# Altium schematic symbol library kmilo17pet-NSC_MiscPower.SchLib: 1552 symbols (part 27 of 43)
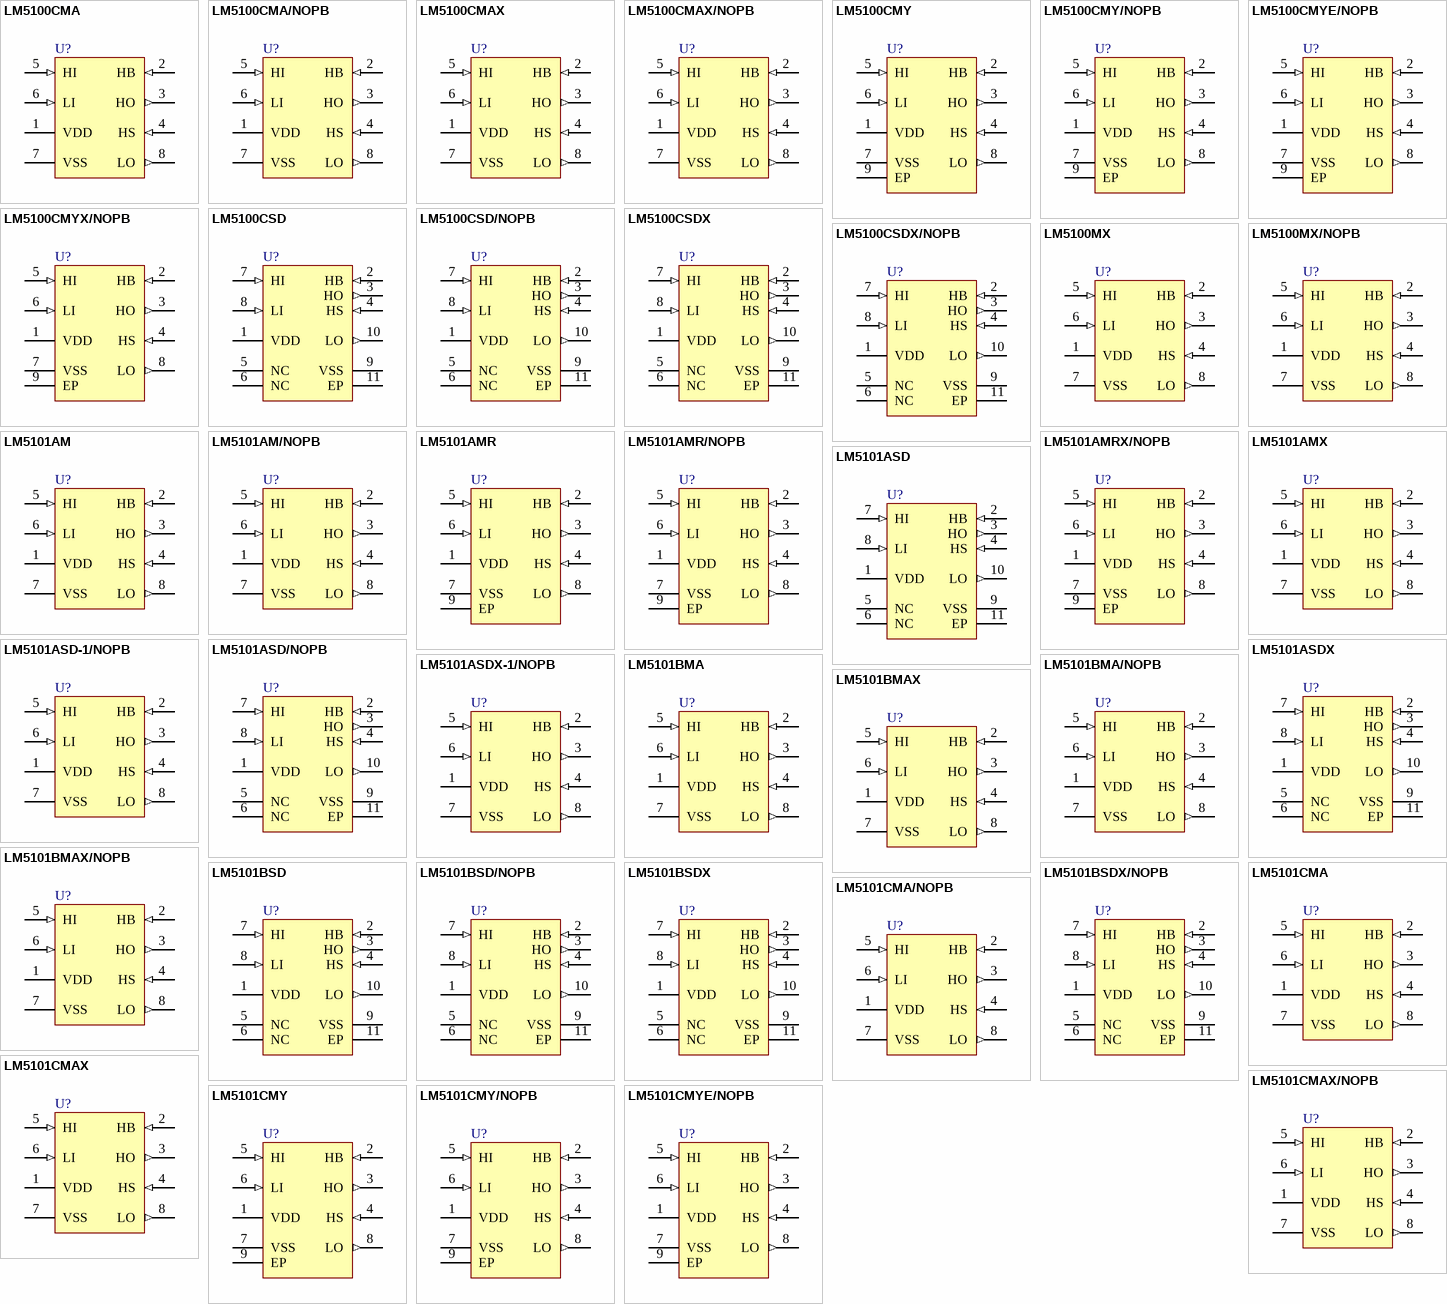
[diagram p83: symbols LM5100CMA to LM5101CMYE/NOPB]

## LM5101AMR
designator U?
3A High Voltage High-Side and Low-Side Gate Driver, 8-pin PSOP; PartNumber: LM5101AMR; Manufacturer: National Semiconductor; PackageTopMarking: NSXYTT*L5101*AMR; PowerWise: N; CompType: MiscPower; High-Reliability: Y; DatasheetVersion: Jun-2009; PackageVersion: revD, Dec-2007; PackageReference: MRA08A; PackageDescription: Molded, PSOP .193 x .154 x .058in, 8 Lead, .050in Pitch; RoHS: Y; PinCount: 8; Code_JEDEC: MS-012-AA; ComponentLink1Description: Manufacturer URL; ComponentLink1URL: http://www.national.com/; ComponentLink2Description: LM5101A Datasheet; ComponentLink2URL: http://www.national.com/ds/LM/LM5100A.pdf; ComponentLink3Description: LM5101A Web Page; ComponentLink3URL: http://www.national.com/pf/LM/LM5101A.html; ComponentLink4Description: MRA08A Package Page; ComponentLink4URL: http://www.national.com/packaging/folders/mra08a.html
footprint MRA08A_N (SOIC, 8-Leads, Body 4.9x3.9mm, Pitch 1.27mm, Thermal Pad, IPC Medium Density)
footprint MRA08A_L (SOIC, 8-Leads, Body 4.9x3.9mm, Pitch 1.27mm, Thermal Pad, IPC High Density)
footprint MRA08A_M (SOIC, 8-Leads, Body 4.9x3.9mm, Pitch 1.27mm, Thermal Pad, IPC Low Density)
pins: 1 VDD (power), 2 HB (in), 3 HO (out), 4 HS (in), 5 HI (in), 6 LI (in), 7 VSS (power), 8 LO (out), 9 EP (power)

## LM5101AMR/NOPB
designator U?
3A High Voltage High-Side and Low-Side Gate Driver, 8-pin PSOP, Pb-Free; PartNumber: LM5101AMR/NOPB; Manufacturer: National Semiconductor; PackageTopMarking: NSXYTT*L5101*AMR; PowerWise: N; CompType: MiscPower; High-Reliability: Y; DatasheetVersion: Aug-2010; PackageVersion: revD, Dec-2007; PackageReference: MRA08A; PackageDescription: Molded, PSOP .193 x .154 x .058in, 8 Lead, .050in Pitch; RoHS: Y; PinCount: 8; Code_JEDEC: MS-012-AA; ComponentLink1Description: Manufacturer URL; ComponentLink1URL: http://www.national.com/; ComponentLink2Description: LM5101A Datasheet; ComponentLink2URL: http://www.national.com/ds/LM/LM5101A.pdf; ComponentLink3Description: LM5101A Web Page; ComponentLink3URL: http://www.national.com/pf/LM/LM5101A.html; ComponentLink4Description: MRA08A Package Page; ComponentLink4URL: http://www.national.com/packaging/folders/mra08a.html
footprint MRA08A_N (SOIC, 8-Leads, Body 4.9x3.9mm, Pitch 1.27mm, Thermal Pad, IPC Medium Density)
footprint MRA08A_L (SOIC, 8-Leads, Body 4.9x3.9mm, Pitch 1.27mm, Thermal Pad, IPC High Density)
footprint MRA08A_M (SOIC, 8-Leads, Body 4.9x3.9mm, Pitch 1.27mm, Thermal Pad, IPC Low Density)
pins: 1 VDD (power), 2 HB (in), 3 HO (out), 4 HS (in), 5 HI (in), 6 LI (in), 7 VSS (power), 8 LO (out), 9 EP (power)

## LM5101AMRX/NOPB
designator U?
3A High Voltage High-Side and Low-Side Gate Driver, 8-pin PSOP, Pb-Free; PartNumber: LM5101AMRX/NOPB; Manufacturer: National Semiconductor; PackageTopMarking: NSXYTT*L5101*AMR; PowerWise: N; CompType: MiscPower; High-Reliability: Y; DatasheetVersion: Aug-2010; PackageVersion: revD, Dec-2007; PackageReference: MRA08A; PackageDescription: Molded, PSOP .193 x .154 x .058in, 8 Lead, .050in Pitch; RoHS: Y; PinCount: 8; Code_JEDEC: MS-012-AA; ComponentLink1Description: Manufacturer URL; ComponentLink1URL: http://www.national.com/; ComponentLink2Description: LM5101A Datasheet; ComponentLink2URL: http://www.national.com/ds/LM/LM5101A.pdf; ComponentLink3Description: LM5101A Web Page; ComponentLink3URL: http://www.national.com/pf/LM/LM5101A.html; ComponentLink4Description: MRA08A Package Page; ComponentLink4URL: http://www.national.com/packaging/folders/mra08a.html
footprint MRA08A_N (SOIC, 8-Leads, Body 4.9x3.9mm, Pitch 1.27mm, Thermal Pad, IPC Medium Density)
footprint MRA08A_L (SOIC, 8-Leads, Body 4.9x3.9mm, Pitch 1.27mm, Thermal Pad, IPC High Density)
footprint MRA08A_M (SOIC, 8-Leads, Body 4.9x3.9mm, Pitch 1.27mm, Thermal Pad, IPC Low Density)
pins: 1 VDD (power), 2 HB (in), 3 HO (out), 4 HS (in), 5 HI (in), 6 LI (in), 7 VSS (power), 8 LO (out), 9 EP (power)

## LM5101AMX
designator U?
3A High Voltage High-Side and Low-Side Gate Driver, 8-pin Narrow SOIC; PartNumber: LM5101AMX; Manufacturer: National Semiconductor; PackageTopMarking: NSZXTT*L5101*AM; PowerWise: N; CompType: MiscPower; High-Reliability: Y; DatasheetVersion: Aug-2010; PackageVersion: revM, May-2009; PackageReference: M08A; PackageDescription: SOIC Narrow, 4.9 x 3.9 x 1.45mm, 8 Lead, 1.27mm Pitch; RoHS: N; PinCount: 8; Code_JEDEC: MS-012-AA; Code_IPC: SOIC127P600-8; ComponentLink1Description: Manufacturer URL; ComponentLink1URL: http://www.national.com/; ComponentLink2Description: LM5101A Datasheet; ComponentLink2URL: http://www.national.com/ds/LM/LM5101A.pdf; ComponentLink3Description: LM5101A Web Page; ComponentLink3URL: http://www.national.com/pf/LM/LM5101A.html; ComponentLink4Description: M08A Package Page; ComponentLink4URL: http://www.national.com/packaging/folders/m08a.html
footprint M08A_N (SOIC, 8-Leads, Body 4.9x3.9mm, Pitch 1.27mm, IPC Medium Density)
footprint M08A_L (SOIC, 8-Leads, Body 4.9x3.9mm, Pitch 1.27mm, IPC High Density)
footprint M08A_M (SOIC, 8-Leads, Body 4.9x3.9mm, Pitch 1.27mm, IPC Low Density)
pins: 1 VDD (power), 2 HB (in), 3 HO (out), 4 HS (in), 5 HI (in), 6 LI (in), 7 VSS (power), 8 LO (out)

## LM5101ASD
designator U?
3A High Voltage High-Side and Low-Side Gate Driver, 10-pin LLP; PartNumber: LM5101ASD; Manufacturer: National Semiconductor; PackageTopMarking: NS*UZXYTT*5101ASD; PowerWise: N; CompType: MiscPower; High-Reliability: Y; DatasheetVersion: Aug-2010; PackageVersion: revA, May-2003; PackageReference: SDC10A; PackageDescription: LLP, Plastic, Dual, 4 x 4 x 0.8mm Body, 10 Lead, 0.8mm Pitch, No Pullback; RoHS: N; PinCount: 10; ComponentLink1Description: Manufacturer URL; ComponentLink1URL: http://www.national.com/; ComponentLink2Description: LM5101A Datasheet; ComponentLink2URL: http://www.national.com/ds/LM/LM5101A.pdf; ComponentLink3Description: LM5101A Web Page; ComponentLink3URL: http://www.national.com/pf/LM/LM5101A.html; ComponentLink4Description: SDC10A Package Page; ComponentLink4URL: http://www.national.com/packaging/folders/sdc10a.html
footprint SDC10A (SON, 10-Leads, Body 4x4 mm, Pitch 0.8mm, NSC Recommended)
pins: 1 VDD (power), 2 HB (in), 3 HO (out), 4 HS (in), 5 NC, 6 NC, 7 HI (in), 8 LI (in), 9 VSS (power), 10 LO (out), 11 EP (power)

## LM5101ASD-1/NOPB
designator U?
3A High Voltage High-Side and Low-Side Gate Driver, 8 pin LLP; PartNumber: LM5101ASD-1/NOPB; Manufacturer: National Semiconductor; PackageTopMarking: NS*UZXYTT*5101A-1; PowerWise: N; CompType: MiscPower; High-Reliability: Y; DatasheetVersion: Aug-2010; PackageVersion: revA, Jun-2003; PackageReference: SDC08A; PackageDescription: LLP, Plastic, Dual, 4 x 4 x 0.8mm Body, 8 Lead, 0.8mm Pitch, No Pullback; RoHS: Y; PinCount: 8; ComponentLink1Description: Manufacturer URL; ComponentLink1URL: http://www.national.com/; ComponentLink2Description: LM5101A Datasheet; ComponentLink2URL: http://www.national.com/ds/LM/LM5101A.pdf; ComponentLink3Description: LM5101A Web Page; ComponentLink3URL: http://www.national.com/pf/LM/LM5101A.html; ComponentLink4Description: SDC08A Package Page; ComponentLink4URL: http://www.national.com/packaging/folders/sdc08a.html
footprint SDC08A (SON, 8-Leads, Body 4x4mm, Pitch 0.8mm, NSC Recommended)
pins: 1 VDD (power), 2 HB (in), 3 HO (out), 4 HS (in), 5 HI (in), 6 LI (in), 7 VSS (power), 8 LO (out)

## LM5101ASD/NOPB
designator U?
3A High Voltage High-Side and Low-Side Gate Driver, 10-pin LLP, Pb-Free; PartNumber: LM5101ASD/NOPB; Manufacturer: National Semiconductor; PackageTopMarking: NS*UZXYTT*5101ASD; PowerWise: N; CompType: MiscPower; High-Reliability: Y; DatasheetVersion: Aug-2010; PackageVersion: revA, May-2003; PackageReference: SDC10A; PackageDescription: LLP, Plastic, Dual, 4 x 4 x 0.8mm Body, 10 Lead, 0.8mm Pitch, No Pullback; RoHS: Y; PinCount: 10; ComponentLink1Description: Manufacturer URL; ComponentLink1URL: http://www.national.com/; ComponentLink2Description: LM5101A Datasheet; ComponentLink2URL: http://www.national.com/ds/LM/LM5101A.pdf; ComponentLink3Description: LM5101A Web Page; ComponentLink3URL: http://www.national.com/pf/LM/LM5101A.html; ComponentLink4Description: SDC10A Package Page; ComponentLink4URL: http://www.national.com/packaging/folders/sdc10a.html
footprint SDC10A (SON, 10-Leads, Body 4x4 mm, Pitch 0.8mm, NSC Recommended)
pins: 1 VDD (power), 2 HB (in), 3 HO (out), 4 HS (in), 5 NC, 6 NC, 7 HI (in), 8 LI (in), 9 VSS (power), 10 LO (out), 11 EP (power)

## LM5101ASDX
designator U?
3A High Voltage High-Side and Low-Side Gate Driver, 10-pin LLP; PartNumber: LM5101ASDX; Manufacturer: National Semiconductor; PackageTopMarking: NS*UZXYTT*5101ASD; PowerWise: N; CompType: MiscPower; High-Reliability: Y; DatasheetVersion: Aug-2010; PackageVersion: revA, May-2003; PackageReference: SDC10A; PackageDescription: LLP, Plastic, Dual, 4 x 4 x 0.8mm Body, 10 Lead, 0.8mm Pitch, No Pullback; RoHS: N; PinCount: 10; ComponentLink1Description: Manufacturer URL; ComponentLink1URL: http://www.national.com/; ComponentLink2Description: LM5101A Datasheet; ComponentLink2URL: http://www.national.com/ds/LM/LM5101A.pdf; ComponentLink3Description: LM5101A Web Page; ComponentLink3URL: http://www.national.com/pf/LM/LM5101A.html; ComponentLink4Description: SDC10A Package Page; ComponentLink4URL: http://www.national.com/packaging/folders/sdc10a.html
footprint SDC10A (SON, 10-Leads, Body 4x4 mm, Pitch 0.8mm, NSC Recommended)
pins: 1 VDD (power), 2 HB (in), 3 HO (out), 4 HS (in), 5 NC, 6 NC, 7 HI (in), 8 LI (in), 9 VSS (power), 10 LO (out), 11 EP (power)

## LM5101ASDX-1/NOPB
designator U?
3A High Voltage High-Side and Low-Side Gate Driver, 8 pin LLP; PartNumber: LM5101ASDX-1/NOPB; Manufacturer: National Semiconductor; PackageTopMarking: NS*UZXYTT*5101A-1; PowerWise: N; CompType: MiscPower; High-Reliability: Y; DatasheetVersion: Aug-2010; PackageVersion: revA, Jun-2003; PackageReference: SDC08A; PackageDescription: LLP, Plastic, Dual, 4 x 4 x 0.8mm Body, 8 Lead, 0.8mm Pitch, No Pullback; RoHS: Y; PinCount: 8; ComponentLink1Description: Manufacturer URL; ComponentLink1URL: http://www.national.com/; ComponentLink2Description: LM5101A Datasheet; ComponentLink2URL: http://www.national.com/ds/LM/LM5101A.pdf; ComponentLink3Description: LM5101A Web Page; ComponentLink3URL: http://www.national.com/pf/LM/LM5101A.html; ComponentLink4Description: SDC08A Package Page; ComponentLink4URL: http://www.national.com/packaging/folders/sdc08a.html
footprint SDC08A (SON, 8-Leads, Body 4x4mm, Pitch 0.8mm, NSC Recommended)
pins: 1 VDD (power), 2 HB (in), 3 HO (out), 4 HS (in), 5 HI (in), 6 LI (in), 7 VSS (power), 8 LO (out)

## LM5101BMA
designator U?
2A High Voltage High-Side and Low-Side Gate Driver, 8-pin Narrow SOIC; PartNumber: LM5101BMA; Manufacturer: National Semiconductor; PackageTopMarking: NSZXTT*L5101*BMA; PowerWise: N; CompType: MiscPower; High-Reliability: Y; DatasheetVersion: Jun-2009; PackageVersion: revM, May-2009; PackageReference: M08A; PackageDescription: SOIC Narrow, 4.9 x 3.9 x 1.45mm, 8 Lead, 1.27mm Pitch; RoHS: N; PinCount: 8; Code_JEDEC: MS-012-AA; Code_IPC: SOIC127P600-8; ComponentLink1Description: Manufacturer URL; ComponentLink1URL: http://www.national.com/; ComponentLink2Description: LM5101B Datasheet; ComponentLink2URL: http://www.national.com/ds/LM/LM5101B.pdf; ComponentLink3Description: LM5101B Web Page; ComponentLink3URL: http://www.national.com/pf/LM/LM5101B.html; ComponentLink4Description: M08A Package Page; ComponentLink4URL: http://www.national.com/packaging/folders/m08a.html
footprint M08A_N (SOIC, 8-Leads, Body 4.9x3.9mm, Pitch 1.27mm, IPC Medium Density)
footprint M08A_L (SOIC, 8-Leads, Body 4.9x3.9mm, Pitch 1.27mm, IPC High Density)
footprint M08A_M (SOIC, 8-Leads, Body 4.9x3.9mm, Pitch 1.27mm, IPC Low Density)
pins: 1 VDD (power), 2 HB (in), 3 HO (out), 4 HS (in), 5 HI (in), 6 LI (in), 7 VSS (power), 8 LO (out)

## LM5101BMA/NOPB
designator U?
2A High Voltage High-Side and Low-Side Gate Driver, 8-pin Narrow SOIC, Pb-Free; PartNumber: LM5101BMA/NOPB; Manufacturer: National Semiconductor; PackageTopMarking: NSZXTT*L5101*BMA; PowerWise: N; CompType: MiscPower; High-Reliability: Y; DatasheetVersion: Jun-2009; PackageVersion: revM, May-2009; PackageReference: M08A; PackageDescription: SOIC Narrow, 4.9 x 3.9 x 1.45mm, 8 Lead, 1.27mm Pitch; RoHS: Y; PinCount: 8; Code_JEDEC: MS-012-AA; Code_IPC: SOIC127P600-8; ComponentLink1Description: Manufacturer URL; ComponentLink1URL: http://www.national.com/; ComponentLink2Description: LM5101B Datasheet; ComponentLink2URL: http://www.national.com/ds/LM/LM5101B.pdf; ComponentLink3Description: LM5101B Web Page; ComponentLink3URL: http://www.national.com/pf/LM/LM5101B.html; ComponentLink4Description: M08A Package Page; ComponentLink4URL: http://www.national.com/packaging/folders/m08a.html
footprint M08A_N (SOIC, 8-Leads, Body 4.9x3.9mm, Pitch 1.27mm, IPC Medium Density)
footprint M08A_L (SOIC, 8-Leads, Body 4.9x3.9mm, Pitch 1.27mm, IPC High Density)
footprint M08A_M (SOIC, 8-Leads, Body 4.9x3.9mm, Pitch 1.27mm, IPC Low Density)
pins: 1 VDD (power), 2 HB (in), 3 HO (out), 4 HS (in), 5 HI (in), 6 LI (in), 7 VSS (power), 8 LO (out)

## LM5101BMAX
designator U?
2A High Voltage High-Side and Low-Side Gate Driver, 8-pin Narrow SOIC; PartNumber: LM5101BMAX; Manufacturer: National Semiconductor; PackageTopMarking: NSZXTT*L5101*BMA; PowerWise: N; CompType: MiscPower; High-Reliability: Y; DatasheetVersion: Jun-2009; PackageVersion: revM, May-2009; PackageReference: M08A; PackageDescription: SOIC Narrow, 4.9 x 3.9 x 1.45mm, 8 Lead, 1.27mm Pitch; RoHS: N; PinCount: 8; Code_JEDEC: MS-012-AA; Code_IPC: SOIC127P600-8; ComponentLink1Description: Manufacturer URL; ComponentLink1URL: http://www.national.com/; ComponentLink2Description: LM5101B Datasheet; ComponentLink2URL: http://www.national.com/ds/LM/LM5101B.pdf; ComponentLink3Description: LM5101B Web Page; ComponentLink3URL: http://www.national.com/pf/LM/LM5101B.html; ComponentLink4Description: M08A Package Page; ComponentLink4URL: http://www.national.com/packaging/folders/m08a.html
footprint M08A_N (SOIC, 8-Leads, Body 4.9x3.9mm, Pitch 1.27mm, IPC Medium Density)
footprint M08A_L (SOIC, 8-Leads, Body 4.9x3.9mm, Pitch 1.27mm, IPC High Density)
footprint M08A_M (SOIC, 8-Leads, Body 4.9x3.9mm, Pitch 1.27mm, IPC Low Density)
pins: 1 VDD (power), 2 HB (in), 3 HO (out), 4 HS (in), 5 HI (in), 6 LI (in), 7 VSS (power), 8 LO (out)

## LM5101BMAX/NOPB
designator U?
2A High Voltage High-Side and Low-Side Gate Driver, 8-pin Narrow SOIC, Pb-Free; PartNumber: LM5101BMAX/NOPB; Manufacturer: National Semiconductor; PackageTopMarking: NSZXTT*L5101*BMA; PowerWise: N; CompType: MiscPower; High-Reliability: Y; DatasheetVersion: Jun-2009; PackageVersion: revM, May-2009; PackageReference: M08A; PackageDescription: SOIC Narrow, 4.9 x 3.9 x 1.45mm, 8 Lead, 1.27mm Pitch; RoHS: Y; PinCount: 8; Code_JEDEC: MS-012-AA; Code_IPC: SOIC127P600-8; ComponentLink1Description: Manufacturer URL; ComponentLink1URL: http://www.national.com/; ComponentLink2Description: LM5101B Datasheet; ComponentLink2URL: http://www.national.com/ds/LM/LM5101B.pdf; ComponentLink3Description: LM5101B Web Page; ComponentLink3URL: http://www.national.com/pf/LM/LM5101B.html; ComponentLink4Description: M08A Package Page; ComponentLink4URL: http://www.national.com/packaging/folders/m08a.html
footprint M08A_N (SOIC, 8-Leads, Body 4.9x3.9mm, Pitch 1.27mm, IPC Medium Density)
footprint M08A_L (SOIC, 8-Leads, Body 4.9x3.9mm, Pitch 1.27mm, IPC High Density)
footprint M08A_M (SOIC, 8-Leads, Body 4.9x3.9mm, Pitch 1.27mm, IPC Low Density)
pins: 1 VDD (power), 2 HB (in), 3 HO (out), 4 HS (in), 5 HI (in), 6 LI (in), 7 VSS (power), 8 LO (out)

## LM5101BSD
designator U?
2A High Voltage High-Side and Low-Side Gate Driver, 10-pin LLP; PartNumber: LM5101BSD; Manufacturer: National Semiconductor; PackageTopMarking: NS*UZXYTT*5101BSD; PowerWise: N; CompType: MiscPower; High-Reliability: Y; DatasheetVersion: Jun-2009; PackageVersion: revA, May-2003; PackageReference: SDC10A; PackageDescription: LLP, Plastic, Dual, 4 x 4 x 0.8mm Body, 10 Lead, 0.8mm Pitch, No Pullback; RoHS: N; PinCount: 10; ComponentLink1Description: Manufacturer URL; ComponentLink1URL: http://www.national.com/; ComponentLink2Description: LM5101B Datasheet; ComponentLink2URL: http://www.national.com/ds/LM/LM5101B.pdf; ComponentLink3Description: LM5101B Web Page; ComponentLink3URL: http://www.national.com/pf/LM/LM5101B.html; ComponentLink4Description: SDC10A Package Page; ComponentLink4URL: http://www.national.com/packaging/folders/sdc10a.html
footprint SDC10A (SON, 10-Leads, Body 4x4 mm, Pitch 0.8mm, NSC Recommended)
pins: 1 VDD (power), 2 HB (in), 3 HO (out), 4 HS (in), 5 NC, 6 NC, 7 HI (in), 8 LI (in), 9 VSS (power), 10 LO (out), 11 EP (power)

## LM5101BSD/NOPB
designator U?
2A High Voltage High-Side and Low-Side Gate Driver, 10-pin LLP, Pb-Free; PartNumber: LM5101BSD/NOPB; Manufacturer: National Semiconductor; PackageTopMarking: NS*UZXYTT*5101BSD; PowerWise: N; CompType: MiscPower; High-Reliability: Y; DatasheetVersion: Jun-2009; PackageVersion: revA, May-2003; PackageReference: SDC10A; PackageDescription: LLP, Plastic, Dual, 4 x 4 x 0.8mm Body, 10 Lead, 0.8mm Pitch, No Pullback; RoHS: Y; PinCount: 10; ComponentLink1Description: Manufacturer URL; ComponentLink1URL: http://www.national.com/; ComponentLink2Description: LM5101B Datasheet; ComponentLink2URL: http://www.national.com/ds/LM/LM5101B.pdf; ComponentLink3Description: LM5101B Web Page; ComponentLink3URL: http://www.national.com/pf/LM/LM5101B.html; ComponentLink4Description: SDC10A Package Page; ComponentLink4URL: http://www.national.com/packaging/folders/sdc10a.html
footprint SDC10A (SON, 10-Leads, Body 4x4 mm, Pitch 0.8mm, NSC Recommended)
pins: 1 VDD (power), 2 HB (in), 3 HO (out), 4 HS (in), 5 NC, 6 NC, 7 HI (in), 8 LI (in), 9 VSS (power), 10 LO (out), 11 EP (power)

## LM5101BSDX
designator U?
2A High Voltage High-Side and Low-Side Gate Driver, 10-pin LLP; PartNumber: LM5101BSDX; Manufacturer: National Semiconductor; PackageTopMarking: NS*UZXYTT*5101BSD; PowerWise: N; CompType: MiscPower; High-Reliability: Y; DatasheetVersion: Jun-2009; PackageVersion: revA, May-2003; PackageReference: SDC10A; PackageDescription: LLP, Plastic, Dual, 4 x 4 x 0.8mm Body, 10 Lead, 0.8mm Pitch, No Pullback; RoHS: N; PinCount: 10; ComponentLink1Description: Manufacturer URL; ComponentLink1URL: http://www.national.com/; ComponentLink2Description: LM5101B Datasheet; ComponentLink2URL: http://www.national.com/ds/LM/LM5101B.pdf; ComponentLink3Description: LM5101B Web Page; ComponentLink3URL: http://www.national.com/pf/LM/LM5101B.html; ComponentLink4Description: SDC10A Package Page; ComponentLink4URL: http://www.national.com/packaging/folders/sdc10a.html
footprint SDC10A (SON, 10-Leads, Body 4x4 mm, Pitch 0.8mm, NSC Recommended)
pins: 1 VDD (power), 2 HB (in), 3 HO (out), 4 HS (in), 5 NC, 6 NC, 7 HI (in), 8 LI (in), 9 VSS (power), 10 LO (out), 11 EP (power)

## LM5101BSDX/NOPB
designator U?
2A High Voltage High-Side and Low-Side Gate Driver, 10-pin LLP, Pb-Free; PartNumber: LM5101BSDX/NOPB; Manufacturer: National Semiconductor; PackageTopMarking: NS*UZXYTT*5101BSD; PowerWise: N; CompType: MiscPower; High-Reliability: Y; DatasheetVersion: Jun-2009; PackageVersion: revA, May-2003; PackageReference: SDC10A; PackageDescription: LLP, Plastic, Dual, 4 x 4 x 0.8mm Body, 10 Lead, 0.8mm Pitch, No Pullback; RoHS: Y; PinCount: 10; ComponentLink1Description: Manufacturer URL; ComponentLink1URL: http://www.national.com/; ComponentLink2Description: LM5101B Datasheet; ComponentLink2URL: http://www.national.com/ds/LM/LM5101B.pdf; ComponentLink3Description: LM5101B Web Page; ComponentLink3URL: http://www.national.com/pf/LM/LM5101B.html; ComponentLink4Description: SDC10A Package Page; ComponentLink4URL: http://www.national.com/packaging/folders/sdc10a.html
footprint SDC10A (SON, 10-Leads, Body 4x4 mm, Pitch 0.8mm, NSC Recommended)
pins: 1 VDD (power), 2 HB (in), 3 HO (out), 4 HS (in), 5 NC, 6 NC, 7 HI (in), 8 LI (in), 9 VSS (power), 10 LO (out), 11 EP (power)

## LM5101CMA
designator U?
1A High Voltage High-Side and Low-Side Gate Driver, 8-pin Narrow SOIC; PartNumber: LM5101CMA; Manufacturer: National Semiconductor; PackageTopMarking: NSZXTT*L5101*CMA; PowerWise: N; CompType: MiscPower; High-Reliability: Y; DatasheetVersion: Jun-2009; PackageVersion: revM, May-2009; PackageReference: M08A; PackageDescription: SOIC Narrow, 4.9 x 3.9 x 1.45mm, 8 Lead, 1.27mm Pitch; RoHS: N; PinCount: 8; Code_JEDEC: MS-012-AA; Code_IPC: SOIC127P600-8; ComponentLink1Description: Manufacturer URL; ComponentLink1URL: http://www.national.com/; ComponentLink2Description: LM5101C Datasheet; ComponentLink2URL: http://www.national.com/ds/LM/LM5101C.pdf; ComponentLink3Description: LM5101C Web Page; ComponentLink3URL: http://www.national.com/pf/LM/LM5101C.html; ComponentLink4Description: M08A Package Page; ComponentLink4URL: http://www.national.com/packaging/folders/m08a.html
footprint M08A_N (SOIC, 8-Leads, Body 4.9x3.9mm, Pitch 1.27mm, IPC Medium Density)
footprint M08A_L (SOIC, 8-Leads, Body 4.9x3.9mm, Pitch 1.27mm, IPC High Density)
footprint M08A_M (SOIC, 8-Leads, Body 4.9x3.9mm, Pitch 1.27mm, IPC Low Density)
pins: 1 VDD (power), 2 HB (in), 3 HO (out), 4 HS (in), 5 HI (in), 6 LI (in), 7 VSS (power), 8 LO (out)

## LM5101CMA/NOPB
designator U?
1A High Voltage High-Side and Low-Side Gate Driver, 8-pin Narrow SOIC, Pb-Free; PartNumber: LM5101CMA/NOPB; Manufacturer: National Semiconductor; PackageTopMarking: NSZXTT*L5101*CMA; PowerWise: N; CompType: MiscPower; High-Reliability: Y; DatasheetVersion: Jun-2009; PackageVersion: revM, May-2009; PackageReference: M08A; PackageDescription: SOIC Narrow, 4.9 x 3.9 x 1.45mm, 8 Lead, 1.27mm Pitch; RoHS: Y; PinCount: 8; Code_JEDEC: MS-012-AA; Code_IPC: SOIC127P600-8; ComponentLink1Description: Manufacturer URL; ComponentLink1URL: http://www.national.com/; ComponentLink2Description: LM5101C Datasheet; ComponentLink2URL: http://www.national.com/ds/LM/LM5101C.pdf; ComponentLink3Description: LM5101C Web Page; ComponentLink3URL: http://www.national.com/pf/LM/LM5101C.html; ComponentLink4Description: M08A Package Page; ComponentLink4URL: http://www.national.com/packaging/folders/m08a.html
footprint M08A_N (SOIC, 8-Leads, Body 4.9x3.9mm, Pitch 1.27mm, IPC Medium Density)
footprint M08A_L (SOIC, 8-Leads, Body 4.9x3.9mm, Pitch 1.27mm, IPC High Density)
footprint M08A_M (SOIC, 8-Leads, Body 4.9x3.9mm, Pitch 1.27mm, IPC Low Density)
pins: 1 VDD (power), 2 HB (in), 3 HO (out), 4 HS (in), 5 HI (in), 6 LI (in), 7 VSS (power), 8 LO (out)

## LM5101CMAX
designator U?
1A High Voltage High-Side and Low-Side Gate Driver, 8-pin Narrow SOIC; PartNumber: LM5101CMAX; Manufacturer: National Semiconductor; PackageTopMarking: NSZXTT*L5101*CMA; PowerWise: N; CompType: MiscPower; High-Reliability: Y; DatasheetVersion: Jun-2009; PackageVersion: revM, May-2009; PackageReference: M08A; PackageDescription: SOIC Narrow, 4.9 x 3.9 x 1.45mm, 8 Lead, 1.27mm Pitch; RoHS: N; PinCount: 8; Code_JEDEC: MS-012-AA; Code_IPC: SOIC127P600-8; ComponentLink1Description: Manufacturer URL; ComponentLink1URL: http://www.national.com/; ComponentLink2Description: LM5101C Datasheet; ComponentLink2URL: http://www.national.com/ds/LM/LM5101C.pdf; ComponentLink3Description: LM5101C Web Page; ComponentLink3URL: http://www.national.com/pf/LM/LM5101C.html; ComponentLink4Description: M08A Package Page; ComponentLink4URL: http://www.national.com/packaging/folders/m08a.html
footprint M08A_N (SOIC, 8-Leads, Body 4.9x3.9mm, Pitch 1.27mm, IPC Medium Density)
footprint M08A_L (SOIC, 8-Leads, Body 4.9x3.9mm, Pitch 1.27mm, IPC High Density)
footprint M08A_M (SOIC, 8-Leads, Body 4.9x3.9mm, Pitch 1.27mm, IPC Low Density)
pins: 1 VDD (power), 2 HB (in), 3 HO (out), 4 HS (in), 5 HI (in), 6 LI (in), 7 VSS (power), 8 LO (out)

## LM5101CMAX/NOPB
designator U?
1A High Voltage High-Side and Low-Side Gate Driver, 8-pin Narrow SOIC, Pb-Free; PartNumber: LM5101CMAX/NOPB; Manufacturer: National Semiconductor; PackageTopMarking: NSZXTT*L5101*CMA; PowerWise: N; CompType: MiscPower; High-Reliability: Y; DatasheetVersion: Jun-2009; PackageVersion: revM, May-2009; PackageReference: M08A; PackageDescription: SOIC Narrow, 4.9 x 3.9 x 1.45mm, 8 Lead, 1.27mm Pitch; RoHS: Y; PinCount: 8; Code_JEDEC: MS-012-AA; Code_IPC: SOIC127P600-8; ComponentLink1Description: Manufacturer URL; ComponentLink1URL: http://www.national.com/; ComponentLink2Description: LM5101C Datasheet; ComponentLink2URL: http://www.national.com/ds/LM/LM5101C.pdf; ComponentLink3Description: LM5101C Web Page; ComponentLink3URL: http://www.national.com/pf/LM/LM5101C.html; ComponentLink4Description: M08A Package Page; ComponentLink4URL: http://www.national.com/packaging/folders/m08a.html
footprint M08A_N (SOIC, 8-Leads, Body 4.9x3.9mm, Pitch 1.27mm, IPC Medium Density)
footprint M08A_L (SOIC, 8-Leads, Body 4.9x3.9mm, Pitch 1.27mm, IPC High Density)
footprint M08A_M (SOIC, 8-Leads, Body 4.9x3.9mm, Pitch 1.27mm, IPC Low Density)
pins: 1 VDD (power), 2 HB (in), 3 HO (out), 4 HS (in), 5 HI (in), 6 LI (in), 7 VSS (power), 8 LO (out)

## LM5101CMY
designator U?
1A High Voltage High-Side and Low-Side Gate Driver, 8-pin eMSOP; PartNumber: LM5101CMY; Manufacturer: National Semiconductor; PackageTopMarking: ZXTT*SXDB; PowerWise: N; CompType: MiscPower; High-Reliability: Y; DatasheetVersion: Jun-2009; PackageVersion: revA, Nov-2003; PackageReference: MUY08A; PackageDescription: Molded Mini-SO, Exposed Pad, .118 x .118 x .034in Body, 8 Lead, .0256in Pitch; RoHS: Y; PinCount: 8; Code_JEDEC: MO-187-AA; ComponentLink1Description: Manufacturer URL; ComponentLink1URL: http://www.national.com/; ComponentLink2Description: LM5101C Datasheet; ComponentLink2URL: http://www.national.com/ds/LM/LM5101C.pdf; ComponentLink3Description: LM5101C Web Page; ComponentLink3URL: http://www.national.com/pf/LM/LM5101C.html; ComponentLink4Description: MUY08A Package Page; ComponentLink4URL: http://www.national.com/packaging/folders/muy08a.html
footprint MUY08A_N (TSOP, 8-Leads, Body 3x3mm, Pitch 0.65mm, Thermal Pad, IPC Medium Density)
footprint MUY08A_L (TSOP, 8-Leads, Body 3x3mm, Pitch 0.65mm, Thermal Pad, IPC High Density)
footprint MUY08A_M (TSOP, 8-Leads, Body 3x3mm, Pitch 0.65mm, Thermal Pad, IPC Low Density)
pins: 1 VDD (power), 2 HB (in), 3 HO (out), 4 HS (in), 5 HI (in), 6 LI (in), 7 VSS (power), 8 LO (out), 9 EP (power)

## LM5101CMY/NOPB
designator U?
1A High Voltage High-Side and Low-Side Gate Driver, 8-pin eMSOP, Pb-Free; PartNumber: LM5101CMY/NOPB; Manufacturer: National Semiconductor; PackageTopMarking: ZXTT*SXDB; PowerWise: N; CompType: MiscPower; High-Reliability: Y; DatasheetVersion: Jun-2009; PackageVersion: revA, Nov-2003; PackageReference: MUY08A; PackageDescription: Molded Mini-SO, Exposed Pad, .118 x .118 x .034in Body, 8 Lead, .0256in Pitch; RoHS: Y; PinCount: 8; Code_JEDEC: MO-187-AA; ComponentLink1Description: Manufacturer URL; ComponentLink1URL: http://www.national.com/; ComponentLink2Description: LM5101C Datasheet; ComponentLink2URL: http://www.national.com/ds/LM/LM5101C.pdf; ComponentLink3Description: LM5101C Web Page; ComponentLink3URL: http://www.national.com/pf/LM/LM5101C.html; ComponentLink4Description: MUY08A Package Page; ComponentLink4URL: http://www.national.com/packaging/folders/muy08a.html
footprint MUY08A_N (TSOP, 8-Leads, Body 3x3mm, Pitch 0.65mm, Thermal Pad, IPC Medium Density)
footprint MUY08A_L (TSOP, 8-Leads, Body 3x3mm, Pitch 0.65mm, Thermal Pad, IPC High Density)
footprint MUY08A_M (TSOP, 8-Leads, Body 3x3mm, Pitch 0.65mm, Thermal Pad, IPC Low Density)
pins: 1 VDD (power), 2 HB (in), 3 HO (out), 4 HS (in), 5 HI (in), 6 LI (in), 7 VSS (power), 8 LO (out), 9 EP (power)

## LM5101CMYE/NOPB
designator U?
1A High Voltage High-Side and Low-Side Gate Driver, 8-pin eMSOP, Pb-Free; PartNumber: LM5101CMYE/NOPB; Manufacturer: National Semiconductor; PackageTopMarking: ZXTT*SXDB; PowerWise: N; CompType: MiscPower; High-Reliability: Y; DatasheetVersion: Jun-2009; PackageVersion: revA, Nov-2003; PackageReference: MUY08A; PackageDescription: Molded Mini-SO, Exposed Pad, .118 x .118 x .034in Body, 8 Lead, .0256in Pitch; RoHS: Y; PinCount: 8; Code_JEDEC: MO-187-AA; ComponentLink1Description: Manufacturer URL; ComponentLink1URL: http://www.national.com/; ComponentLink2Description: LM5101C Datasheet; ComponentLink2URL: http://www.national.com/ds/LM/LM5101C.pdf; ComponentLink3Description: LM5101C Web Page; ComponentLink3URL: http://www.national.com/pf/LM/LM5101C.html; ComponentLink4Description: MUY08A Package Page; ComponentLink4URL: http://www.national.com/packaging/folders/muy08a.html
footprint MUY08A_N (TSOP, 8-Leads, Body 3x3mm, Pitch 0.65mm, Thermal Pad, IPC Medium Density)
footprint MUY08A_L (TSOP, 8-Leads, Body 3x3mm, Pitch 0.65mm, Thermal Pad, IPC High Density)
footprint MUY08A_M (TSOP, 8-Leads, Body 3x3mm, Pitch 0.65mm, Thermal Pad, IPC Low Density)
pins: 1 VDD (power), 2 HB (in), 3 HO (out), 4 HS (in), 5 HI (in), 6 LI (in), 7 VSS (power), 8 LO (out), 9 EP (power)

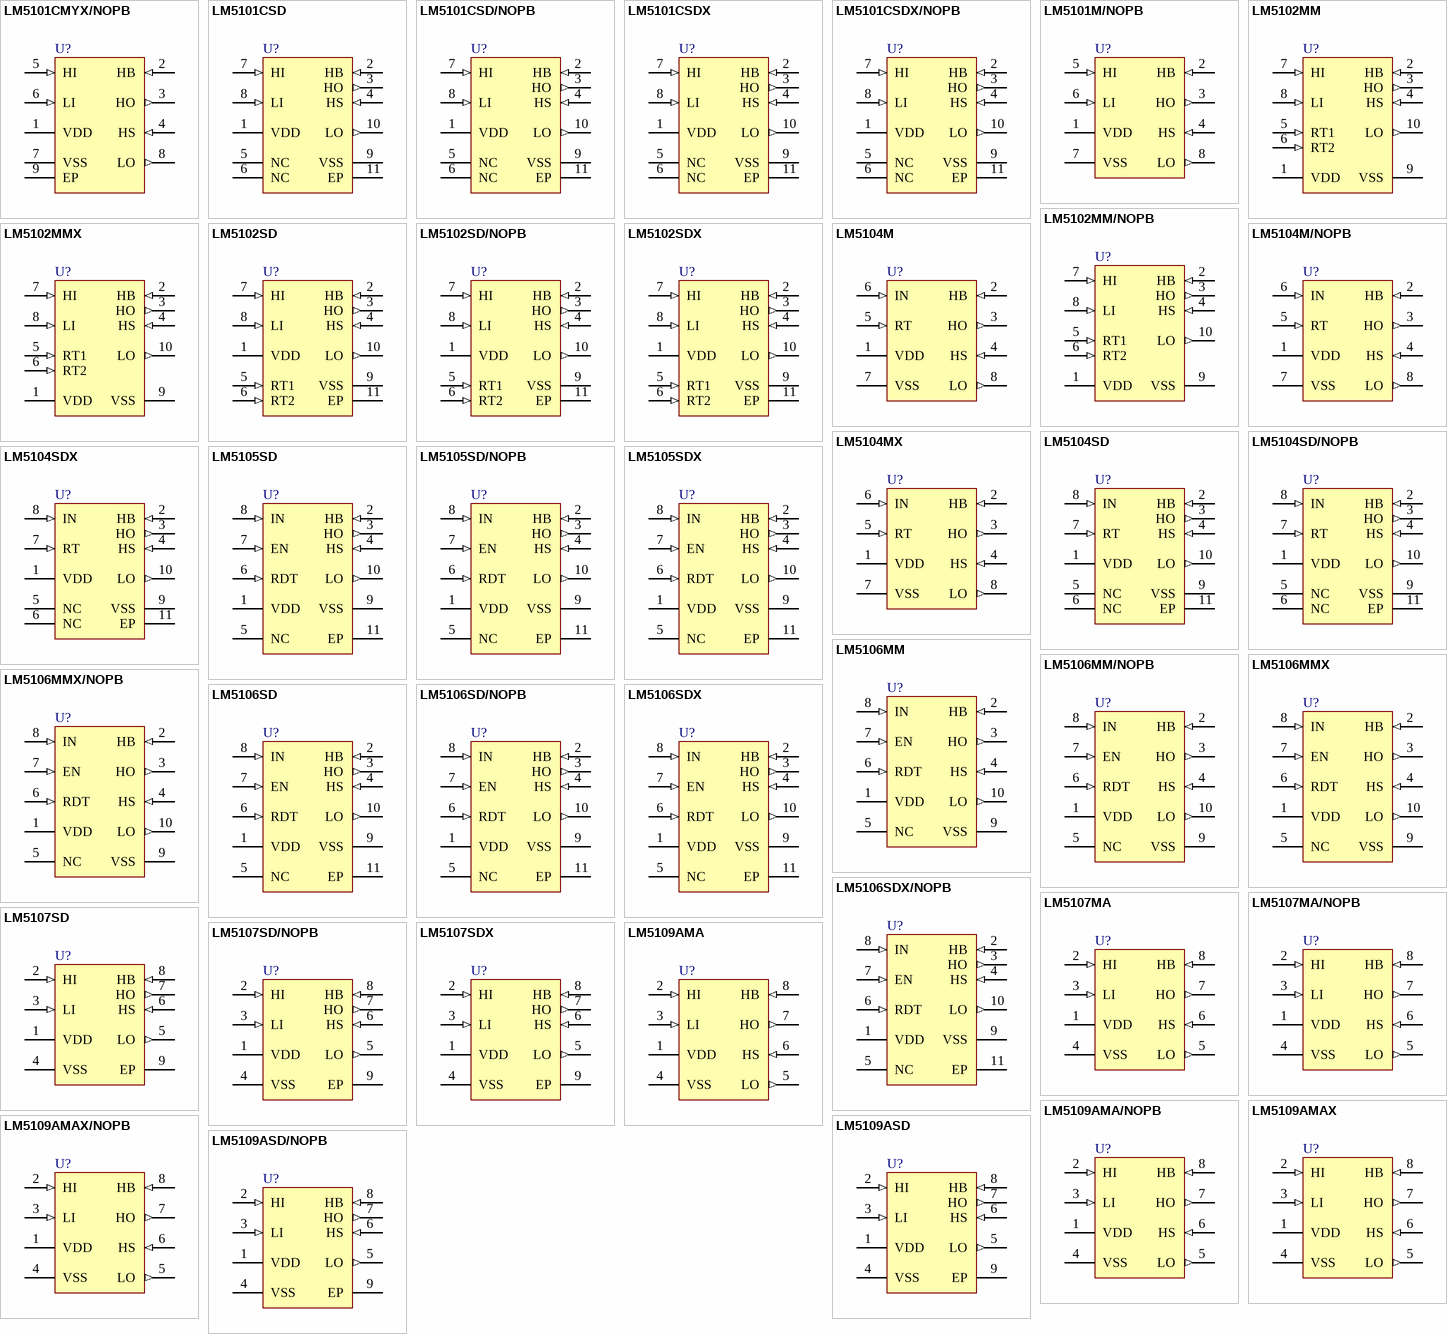
[diagram p30: symbols LM5101CMYX/NOPB to LM5109ASD/NOPB]

## LM5101CMYX/NOPB
designator U?
1A High Voltage High-Side and Low-Side Gate Driver, 8-pin eMSOP, Pb-Free; PartNumber: LM5101CMYX/NOPB; Manufacturer: National Semiconductor; PackageTopMarking: ZXTT*SXDB; PowerWise: N; CompType: MiscPower; High-Reliability: Y; DatasheetVersion: Jun-2009; PackageVersion: revA, Nov-2003; PackageReference: MUY08A; PackageDescription: Molded Mini-SO, Exposed Pad, .118 x .118 x .034in Body, 8 Lead, .0256in Pitch; RoHS: Y; PinCount: 8; Code_JEDEC: MO-187-AA; ComponentLink1Description: Manufacturer URL; ComponentLink1URL: http://www.national.com/; ComponentLink2Description: LM5101C Datasheet; ComponentLink2URL: http://www.national.com/ds/LM/LM5101C.pdf; ComponentLink3Description: LM5101C Web Page; ComponentLink3URL: http://www.national.com/pf/LM/LM5101C.html; ComponentLink4Description: MUY08A Package Page; ComponentLink4URL: http://www.national.com/packaging/folders/muy08a.html
footprint MUY08A_N (TSOP, 8-Leads, Body 3x3mm, Pitch 0.65mm, Thermal Pad, IPC Medium Density)
footprint MUY08A_L (TSOP, 8-Leads, Body 3x3mm, Pitch 0.65mm, Thermal Pad, IPC High Density)
footprint MUY08A_M (TSOP, 8-Leads, Body 3x3mm, Pitch 0.65mm, Thermal Pad, IPC Low Density)
pins: 1 VDD (power), 2 HB (in), 3 HO (out), 4 HS (in), 5 HI (in), 6 LI (in), 7 VSS (power), 8 LO (out), 9 EP (power)

## LM5101CSD
designator U?
1A High Voltage High-Side and Low-Side Gate Driver, 10-pin LLP; PartNumber: LM5101CSD; Manufacturer: National Semiconductor; PackageTopMarking: NS*UZXYTT*5101CSD; PowerWise: N; CompType: MiscPower; High-Reliability: Y; DatasheetVersion: Jun-2009; PackageVersion: revA, May-2003; PackageReference: SDC10A; PackageDescription: LLP, Plastic, Dual, 4 x 4 x 0.8mm Body, 10 Lead, 0.8mm Pitch, No Pullback; RoHS: N; PinCount: 10; ComponentLink1Description: Manufacturer URL; ComponentLink1URL: http://www.national.com/; ComponentLink2Description: LM5101C Datasheet; ComponentLink2URL: http://www.national.com/ds/LM/LM5101C.pdf; ComponentLink3Description: LM5101C Web Page; ComponentLink3URL: http://www.national.com/pf/LM/LM5101C.html; ComponentLink4Description: SDC10A Package Page; ComponentLink4URL: http://www.national.com/packaging/folders/sdc10a.html
footprint SDC10A (SON, 10-Leads, Body 4x4 mm, Pitch 0.8mm, NSC Recommended)
pins: 1 VDD (power), 2 HB (in), 3 HO (out), 4 HS (in), 5 NC, 6 NC, 7 HI (in), 8 LI (in), 9 VSS (power), 10 LO (out), 11 EP (power)

## LM5101CSD/NOPB
designator U?
1A High Voltage High-Side and Low-Side Gate Driver, 10-pin LLP, Pb-Free; PartNumber: LM5101CSD/NOPB; Manufacturer: National Semiconductor; PackageTopMarking: NS*UZXYTT*5101CSD; PowerWise: N; CompType: MiscPower; High-Reliability: Y; DatasheetVersion: Jun-2009; PackageVersion: revA, May-2003; PackageReference: SDC10A; PackageDescription: LLP, Plastic, Dual, 4 x 4 x 0.8mm Body, 10 Lead, 0.8mm Pitch, No Pullback; RoHS: Y; PinCount: 10; ComponentLink1Description: Manufacturer URL; ComponentLink1URL: http://www.national.com/; ComponentLink2Description: LM5101C Datasheet; ComponentLink2URL: http://www.national.com/ds/LM/LM5101C.pdf; ComponentLink3Description: LM5101C Web Page; ComponentLink3URL: http://www.national.com/pf/LM/LM5101C.html; ComponentLink4Description: SDC10A Package Page; ComponentLink4URL: http://www.national.com/packaging/folders/sdc10a.html
footprint SDC10A (SON, 10-Leads, Body 4x4 mm, Pitch 0.8mm, NSC Recommended)
pins: 1 VDD (power), 2 HB (in), 3 HO (out), 4 HS (in), 5 NC, 6 NC, 7 HI (in), 8 LI (in), 9 VSS (power), 10 LO (out), 11 EP (power)

## LM5101CSDX
designator U?
1A High Voltage High-Side and Low-Side Gate Driver, 10-pin LLP; PartNumber: LM5101CSDX; Manufacturer: National Semiconductor; PackageTopMarking: NS*UZXYTT*5101CSD; PowerWise: N; CompType: MiscPower; High-Reliability: Y; DatasheetVersion: Jun-2009; PackageVersion: revA, May-2003; PackageReference: SDC10A; PackageDescription: LLP, Plastic, Dual, 4 x 4 x 0.8mm Body, 10 Lead, 0.8mm Pitch, No Pullback; RoHS: N; PinCount: 10; ComponentLink1Description: Manufacturer URL; ComponentLink1URL: http://www.national.com/; ComponentLink2Description: LM5101C Datasheet; ComponentLink2URL: http://www.national.com/ds/LM/LM5101C.pdf; ComponentLink3Description: LM5101C Web Page; ComponentLink3URL: http://www.national.com/pf/LM/LM5101C.html; ComponentLink4Description: SDC10A Package Page; ComponentLink4URL: http://www.national.com/packaging/folders/sdc10a.html
footprint SDC10A (SON, 10-Leads, Body 4x4 mm, Pitch 0.8mm, NSC Recommended)
pins: 1 VDD (power), 2 HB (in), 3 HO (out), 4 HS (in), 5 NC, 6 NC, 7 HI (in), 8 LI (in), 9 VSS (power), 10 LO (out), 11 EP (power)

## LM5101CSDX/NOPB
designator U?
1A High Voltage High-Side and Low-Side Gate Driver, 10-pin LLP, Pb-Free; PartNumber: LM5101CSDX/NOPB; Manufacturer: National Semiconductor; PackageTopMarking: NS*UZXYTT*5101CSD; PowerWise: N; CompType: MiscPower; High-Reliability: Y; DatasheetVersion: Jun-2009; PackageVersion: revA, May-2003; PackageReference: SDC10A; PackageDescription: LLP, Plastic, Dual, 4 x 4 x 0.8mm Body, 10 Lead, 0.8mm Pitch, No Pullback; RoHS: Y; PinCount: 10; ComponentLink1Description: Manufacturer URL; ComponentLink1URL: http://www.national.com/; ComponentLink2Description: LM5101C Datasheet; ComponentLink2URL: http://www.national.com/ds/LM/LM5101C.pdf; ComponentLink3Description: LM5101C Web Page; ComponentLink3URL: http://www.national.com/pf/LM/LM5101C.html; ComponentLink4Description: SDC10A Package Page; ComponentLink4URL: http://www.national.com/packaging/folders/sdc10a.html
footprint SDC10A (SON, 10-Leads, Body 4x4 mm, Pitch 0.8mm, NSC Recommended)
pins: 1 VDD (power), 2 HB (in), 3 HO (out), 4 HS (in), 5 NC, 6 NC, 7 HI (in), 8 LI (in), 9 VSS (power), 10 LO (out), 11 EP (power)

## LM5101M/NOPB
designator U?
High Voltage High Side and Low Side Gate Driver, 8 pin SOIC NARROW; PartNumber: LM5101M/NOPB; Manufacturer: National Semiconductor; PackageTopMarking: NSZXTT*5101*M; PowerWise: N; CompType: MiscPower; High-Reliability: Y; DatasheetVersion: Mar-2005; PackageVersion: revM, May-2009; PackageReference: M08A; PackageDescription: SOIC Narrow, 4.9 x 3.9 x 1.45mm, 8 Lead, 1.27mm Pitch; RoHS: Y; PinCount: 8; Code_JEDEC: MS-012-AA; Code_IPC: SOIC127P600-8; ComponentLink1Description: Manufacturer URL; ComponentLink1URL: http://www.national.com/; ComponentLink2Description: LM5101 Datasheet; ComponentLink2URL: http://www.national.com/ds/LM/LM5101.pdf; ComponentLink3Description: LM5101 Web Page; ComponentLink3URL: http://www.national.com/pf/LM/LM5101.html; ComponentLink4Description: M08A Package Page; ComponentLink4URL: http://www.national.com/packaging/folders/m08a.html
footprint M08A_N (SOIC, 8-Leads, Body 4.9x3.9mm, Pitch 1.27mm, IPC Medium Density)
footprint M08A_L (SOIC, 8-Leads, Body 4.9x3.9mm, Pitch 1.27mm, IPC High Density)
footprint M08A_M (SOIC, 8-Leads, Body 4.9x3.9mm, Pitch 1.27mm, IPC Low Density)
pins: 1 VDD (power), 2 HB (in), 3 HO (out), 4 HS (in), 5 HI (in), 6 LI (in), 7 VSS (power), 8 LO (out)

## LM5102MM
designator U?
High Voltage Half-Bridge Gate Driver with Programmable Delay, 10-pin MSOP; PartNumber: LM5102MM; Manufacturer: National Semiconductor; PackageTopMarking: ZXTT*5102; PowerWise: N; CompType: MiscPower; High-Reliability: Y; DatasheetVersion: Jan-2004; PackageVersion: revB, Jul-2003; PackageReference: MUB10A; PackageDescription: Mini-SO, Molded, .118 x .118 x .034in Body, 10 Lead, .0197in Pitch; RoHS: N; PinCount: 10; Code_JEDEC: MO-187-BA; ComponentLink1Description: Manufacturer URL; ComponentLink1URL: http://www.national.com/; ComponentLink2Description: LM5102 Datasheet; ComponentLink2URL: http://www.national.com/ds/LM/LM5102.pdf; ComponentLink3Description: LM5102 Web Page; ComponentLink3URL: http://www.national.com/pf/LM/LM5102.html; ComponentLink4Description: MUB10A Package Page; ComponentLink4URL: http://www.national.com/packaging/folders/mub10a.html
footprint MUB10A_N (TSSOP, 10-Leads, Body 3x3mm, Pitch 0.5mm, IPC Medium Density)
footprint MUB10A_L (TSSOP, 10-Leads, Body 3x3mm, Pitch 0.5mm, IPC High Density)
footprint MUB10A_M (TSSOP, 10-Leads, Body 3x3mm, Pitch 0.5mm, IPC Low Density)
pins: 1 VDD (power), 2 HB (in), 3 HO (out), 4 HS (in), 5 RT1 (in), 6 RT2 (in), 7 HI (in), 8 LI (in), 9 VSS (power), 10 LO (out)

## LM5102MM/NOPB
designator U?
High Voltage Half-Bridge Gate Driver with Programmable Delay, 10-pin MSOP, Pb-Free; PartNumber: LM5102MM/NOPB; Manufacturer: National Semiconductor; PackageTopMarking: ZXTT*5102; PowerWise: N; CompType: MiscPower; High-Reliability: Y; DatasheetVersion: Jan-2004; PackageVersion: revB, Jul-2003; PackageReference: MUB10A; PackageDescription: Mini-SO, Molded, .118 x .118 x .034in Body, 10 Lead, .0197in Pitch; RoHS: Y; PinCount: 10; Code_JEDEC: MO-187-BA; ComponentLink1Description: Manufacturer URL; ComponentLink1URL: http://www.national.com/; ComponentLink2Description: LM5102 Datasheet; ComponentLink2URL: http://www.national.com/ds/LM/LM5102.pdf; ComponentLink3Description: LM5102 Web Page; ComponentLink3URL: http://www.national.com/pf/LM/LM5102.html; ComponentLink4Description: MUB10A Package Page; ComponentLink4URL: http://www.national.com/packaging/folders/mub10a.html
footprint MUB10A_N (TSSOP, 10-Leads, Body 3x3mm, Pitch 0.5mm, IPC Medium Density)
footprint MUB10A_L (TSSOP, 10-Leads, Body 3x3mm, Pitch 0.5mm, IPC High Density)
footprint MUB10A_M (TSSOP, 10-Leads, Body 3x3mm, Pitch 0.5mm, IPC Low Density)
pins: 1 VDD (power), 2 HB (in), 3 HO (out), 4 HS (in), 5 RT1 (in), 6 RT2 (in), 7 HI (in), 8 LI (in), 9 VSS (power), 10 LO (out)

## LM5102MMX
designator U?
High Voltage Half-Bridge Gate Driver with Programmable Delay, 10-pin MSOP; PartNumber: LM5102MMX; Manufacturer: National Semiconductor; PackageTopMarking: ZXTT*5102; PowerWise: N; CompType: MiscPower; High-Reliability: Y; DatasheetVersion: Jan-2004; PackageVersion: revB, Jul-2003; PackageReference: MUB10A; PackageDescription: Mini-SO, Molded, .118 x .118 x .034in Body, 10 Lead, .0197in Pitch; RoHS: N; PinCount: 10; Code_JEDEC: MO-187-BA; ComponentLink1Description: Manufacturer URL; ComponentLink1URL: http://www.national.com/; ComponentLink2Description: LM5102 Datasheet; ComponentLink2URL: http://www.national.com/ds/LM/LM5102.pdf; ComponentLink3Description: LM5102 Web Page; ComponentLink3URL: http://www.national.com/pf/LM/LM5102.html; ComponentLink4Description: MUB10A Package Page; ComponentLink4URL: http://www.national.com/packaging/folders/mub10a.html
footprint MUB10A_N (TSSOP, 10-Leads, Body 3x3mm, Pitch 0.5mm, IPC Medium Density)
footprint MUB10A_L (TSSOP, 10-Leads, Body 3x3mm, Pitch 0.5mm, IPC High Density)
footprint MUB10A_M (TSSOP, 10-Leads, Body 3x3mm, Pitch 0.5mm, IPC Low Density)
pins: 1 VDD (power), 2 HB (in), 3 HO (out), 4 HS (in), 5 RT1 (in), 6 RT2 (in), 7 HI (in), 8 LI (in), 9 VSS (power), 10 LO (out)

## LM5102SD
designator U?
High Voltage Half-Bridge Gate Driver with Programmable Delay, 10-pin LLP; PartNumber: LM5102SD; Manufacturer: National Semiconductor; PackageTopMarking: NS*UZXYTT*5102SD; PowerWise: N; CompType: MiscPower; High-Reliability: Y; DatasheetVersion: Jan-2004; PackageVersion: revA, May-2003; PackageReference: SDC10A; PackageDescription: LLP, Plastic, Dual, 4 x 4 x 0.8mm Body, 10 Lead, 0.8mm Pitch, No Pullback; RoHS: N; PinCount: 10; ComponentLink1Description: Manufacturer URL; ComponentLink1URL: http://www.national.com/; ComponentLink2Description: LM5102 Datasheet; ComponentLink2URL: http://www.national.com/ds/LM/LM5102.pdf; ComponentLink3Description: LM5102 Web Page; ComponentLink3URL: http://www.national.com/pf/LM/LM5102.html; ComponentLink4Description: SDC10A Package Page; ComponentLink4URL: http://www.national.com/packaging/folders/sdc10a.html
footprint SDC10A (SON, 10-Leads, Body 4x4 mm, Pitch 0.8mm, NSC Recommended)
pins: 1 VDD (power), 2 HB (in), 3 HO (out), 4 HS (in), 5 RT1 (in), 6 RT2 (in), 7 HI (in), 8 LI (in), 9 VSS (power), 10 LO (out), 11 EP (power)

## LM5102SD/NOPB
designator U?
High Voltage Half-Bridge Gate Driver with Programmable Delay, 10-pin LLP, Pb-Free; PartNumber: LM5102SD/NOPB; Manufacturer: National Semiconductor; PackageTopMarking: NS*UZXYTT*5102SD; PowerWise: N; CompType: MiscPower; High-Reliability: Y; DatasheetVersion: Jan-2004; PackageVersion: revA, May-2003; PackageReference: SDC10A; PackageDescription: LLP, Plastic, Dual, 4 x 4 x 0.8mm Body, 10 Lead, 0.8mm Pitch, No Pullback; RoHS: Y; PinCount: 10; ComponentLink1Description: Manufacturer URL; ComponentLink1URL: http://www.national.com/; ComponentLink2Description: LM5102 Datasheet; ComponentLink2URL: http://www.national.com/ds/LM/LM5102.pdf; ComponentLink3Description: LM5102 Web Page; ComponentLink3URL: http://www.national.com/pf/LM/LM5102.html; ComponentLink4Description: SDC10A Package Page; ComponentLink4URL: http://www.national.com/packaging/folders/sdc10a.html
footprint SDC10A (SON, 10-Leads, Body 4x4 mm, Pitch 0.8mm, NSC Recommended)
pins: 1 VDD (power), 2 HB (in), 3 HO (out), 4 HS (in), 5 RT1 (in), 6 RT2 (in), 7 HI (in), 8 LI (in), 9 VSS (power), 10 LO (out), 11 EP (power)

## LM5102SDX
designator U?
High Voltage Half-Bridge Gate Driver with Programmable Delay, 10-pin LLP; PartNumber: LM5102SDX; Manufacturer: National Semiconductor; PackageTopMarking: NS*UZXYTT*5102SD; PowerWise: N; CompType: MiscPower; High-Reliability: Y; DatasheetVersion: Jan-2004; PackageVersion: revA, May-2003; PackageReference: SDC10A; PackageDescription: LLP, Plastic, Dual, 4 x 4 x 0.8mm Body, 10 Lead, 0.8mm Pitch, No Pullback; RoHS: N; PinCount: 10; ComponentLink1Description: Manufacturer URL; ComponentLink1URL: http://www.national.com/; ComponentLink2Description: LM5102 Datasheet; ComponentLink2URL: http://www.national.com/ds/LM/LM5102.pdf; ComponentLink3Description: LM5102 Web Page; ComponentLink3URL: http://www.national.com/pf/LM/LM5102.html; ComponentLink4Description: SDC10A Package Page; ComponentLink4URL: http://www.national.com/packaging/folders/sdc10a.html
footprint SDC10A (SON, 10-Leads, Body 4x4 mm, Pitch 0.8mm, NSC Recommended)
pins: 1 VDD (power), 2 HB (in), 3 HO (out), 4 HS (in), 5 RT1 (in), 6 RT2 (in), 7 HI (in), 8 LI (in), 9 VSS (power), 10 LO (out), 11 EP (power)

## LM5104M
designator U?
High Voltage Half-Bridge Gate Driver with Adaptive Delay, 8-pin Narrow SOIC; PartNumber: LM5104M; Manufacturer: National Semiconductor; PackageTopMarking: NSZXTT*5104*M; PowerWise: N; CompType: MiscPower; High-Reliability: Y; DatasheetVersion: Dec-2008; PackageVersion: revM, May-2009; PackageReference: M08A; PackageDescription: SOIC Narrow, 4.9 x 3.9 x 1.45mm, 8 Lead, 1.27mm Pitch; RoHS: N; PinCount: 8; Code_JEDEC: MS-012-AA; Code_IPC: SOIC127P600-8; ComponentLink1Description: Manufacturer URL; ComponentLink1URL: http://www.national.com/; ComponentLink2Description: LM5104 Datasheet; ComponentLink2URL: http://www.national.com/ds/LM/LM5104.pdf; ComponentLink3Description: LM5104 Web Page; ComponentLink3URL: http://www.national.com/pf/LM/LM5104.html; ComponentLink4Description: M08A Package Page; ComponentLink4URL: http://www.national.com/packaging/folders/m08a.html
footprint M08A_N (SOIC, 8-Leads, Body 4.9x3.9mm, Pitch 1.27mm, IPC Medium Density)
footprint M08A_L (SOIC, 8-Leads, Body 4.9x3.9mm, Pitch 1.27mm, IPC High Density)
footprint M08A_M (SOIC, 8-Leads, Body 4.9x3.9mm, Pitch 1.27mm, IPC Low Density)
pins: 1 VDD (power), 2 HB (in), 3 HO (out), 4 HS (in), 5 RT (in), 6 IN (in), 7 VSS (power), 8 LO (out)

## LM5104M/NOPB
designator U?
High Voltage Half-Bridge Gate Driver with Adaptive Delay, 8-pin Narrow SOIC, Pb-Free; PartNumber: LM5104M/NOPB; Manufacturer: National Semiconductor; PackageTopMarking: NSZXTT*5104*M; PowerWise: N; CompType: MiscPower; High-Reliability: Y; DatasheetVersion: Dec-2008; PackageVersion: revM, May-2009; PackageReference: M08A; PackageDescription: SOIC Narrow, 4.9 x 3.9 x 1.45mm, 8 Lead, 1.27mm Pitch; RoHS: Y; PinCount: 8; Code_JEDEC: MS-012-AA; Code_IPC: SOIC127P600-8; ComponentLink1Description: Manufacturer URL; ComponentLink1URL: http://www.national.com/; ComponentLink2Description: LM5104 Datasheet; ComponentLink2URL: http://www.national.com/ds/LM/LM5104.pdf; ComponentLink3Description: LM5104 Web Page; ComponentLink3URL: http://www.national.com/pf/LM/LM5104.html; ComponentLink4Description: M08A Package Page; ComponentLink4URL: http://www.national.com/packaging/folders/m08a.html
footprint M08A_N (SOIC, 8-Leads, Body 4.9x3.9mm, Pitch 1.27mm, IPC Medium Density)
footprint M08A_L (SOIC, 8-Leads, Body 4.9x3.9mm, Pitch 1.27mm, IPC High Density)
footprint M08A_M (SOIC, 8-Leads, Body 4.9x3.9mm, Pitch 1.27mm, IPC Low Density)
pins: 1 VDD (power), 2 HB (in), 3 HO (out), 4 HS (in), 5 RT (in), 6 IN (in), 7 VSS (power), 8 LO (out)

## LM5104MX
designator U?
High Voltage Half-Bridge Gate Driver with Adaptive Delay, 8-pin Narrow SOIC; PartNumber: LM5104MX; Manufacturer: National Semiconductor; PackageTopMarking: NSZXTT*5104*M; PowerWise: N; CompType: MiscPower; High-Reliability: Y; DatasheetVersion: Dec-2008; PackageVersion: revM, May-2009; PackageReference: M08A; PackageDescription: SOIC Narrow, 4.9 x 3.9 x 1.45mm, 8 Lead, 1.27mm Pitch; RoHS: N; PinCount: 8; Code_JEDEC: MS-012-AA; Code_IPC: SOIC127P600-8; ComponentLink1Description: Manufacturer URL; ComponentLink1URL: http://www.national.com/; ComponentLink2Description: LM5104 Datasheet; ComponentLink2URL: http://www.national.com/ds/LM/LM5104.pdf; ComponentLink3Description: LM5104 Web Page; ComponentLink3URL: http://www.national.com/pf/LM/LM5104.html; ComponentLink4Description: M08A Package Page; ComponentLink4URL: http://www.national.com/packaging/folders/m08a.html
footprint M08A_N (SOIC, 8-Leads, Body 4.9x3.9mm, Pitch 1.27mm, IPC Medium Density)
footprint M08A_L (SOIC, 8-Leads, Body 4.9x3.9mm, Pitch 1.27mm, IPC High Density)
footprint M08A_M (SOIC, 8-Leads, Body 4.9x3.9mm, Pitch 1.27mm, IPC Low Density)
pins: 1 VDD (power), 2 HB (in), 3 HO (out), 4 HS (in), 5 RT (in), 6 IN (in), 7 VSS (power), 8 LO (out)

## LM5104SD
designator U?
High Voltage Half-Bridge Gate Driver with Adaptive Delay, 10-pin LLP; PartNumber: LM5104SD; Manufacturer: National Semiconductor; PackageTopMarking: NS*UZXYTT*5104SD; PowerWise: N; CompType: MiscPower; High-Reliability: Y; DatasheetVersion: Dec-2008; PackageVersion: revA, May-2003; PackageReference: SDC10A; PackageDescription: LLP, Plastic, Dual, 4 x 4 x 0.8mm Body, 10 Lead, 0.8mm Pitch, No Pullback; RoHS: N; PinCount: 10; ComponentLink1Description: Manufacturer URL; ComponentLink1URL: http://www.national.com/; ComponentLink2Description: LM5104 Datasheet; ComponentLink2URL: http://www.national.com/ds/LM/LM5104.pdf; ComponentLink3Description: LM5104 Web Page; ComponentLink3URL: http://www.national.com/pf/LM/LM5104.html; ComponentLink4Description: SDC10A Package Page; ComponentLink4URL: http://www.national.com/packaging/folders/sdc10a.html
footprint SDC10A (SON, 10-Leads, Body 4x4 mm, Pitch 0.8mm, NSC Recommended)
pins: 1 VDD (power), 2 HB (in), 3 HO (out), 4 HS (in), 5 NC, 6 NC, 7 RT (in), 8 IN (in), 9 VSS (power), 10 LO (out), 11 EP (power)

## LM5104SD/NOPB
designator U?
High Voltage Half-Bridge Gate Driver with Adaptive Delay, 10-pin LLP, Pb-Free; PartNumber: LM5104SD/NOPB; Manufacturer: National Semiconductor; PackageTopMarking: NS*UZXYTT*5104SD; PowerWise: N; CompType: MiscPower; High-Reliability: Y; DatasheetVersion: Dec-2008; PackageVersion: revA, May-2003; PackageReference: SDC10A; PackageDescription: LLP, Plastic, Dual, 4 x 4 x 0.8mm Body, 10 Lead, 0.8mm Pitch, No Pullback; RoHS: Y; PinCount: 10; ComponentLink1Description: Manufacturer URL; ComponentLink1URL: http://www.national.com/; ComponentLink2Description: LM5104 Datasheet; ComponentLink2URL: http://www.national.com/ds/LM/LM5104.pdf; ComponentLink3Description: LM5104 Web Page; ComponentLink3URL: http://www.national.com/pf/LM/LM5104.html; ComponentLink4Description: SDC10A Package Page; ComponentLink4URL: http://www.national.com/packaging/folders/sdc10a.html
footprint SDC10A (SON, 10-Leads, Body 4x4 mm, Pitch 0.8mm, NSC Recommended)
pins: 1 VDD (power), 2 HB (in), 3 HO (out), 4 HS (in), 5 NC, 6 NC, 7 RT (in), 8 IN (in), 9 VSS (power), 10 LO (out), 11 EP (power)